# Altium footprint library SAMTEC_FTSH-105-01-L-D.PcbLib: 1 footprints
Each footprint in its own frame and in the unit in brackets; x right, y up, seen from the top. Pads: shape width x height; smd on the part's side, far side on the other; paste and mask are expansions set on the pad; w line width, h text height; cw(c..) or ccw(c..) is an arc to the next point about the centre after c.
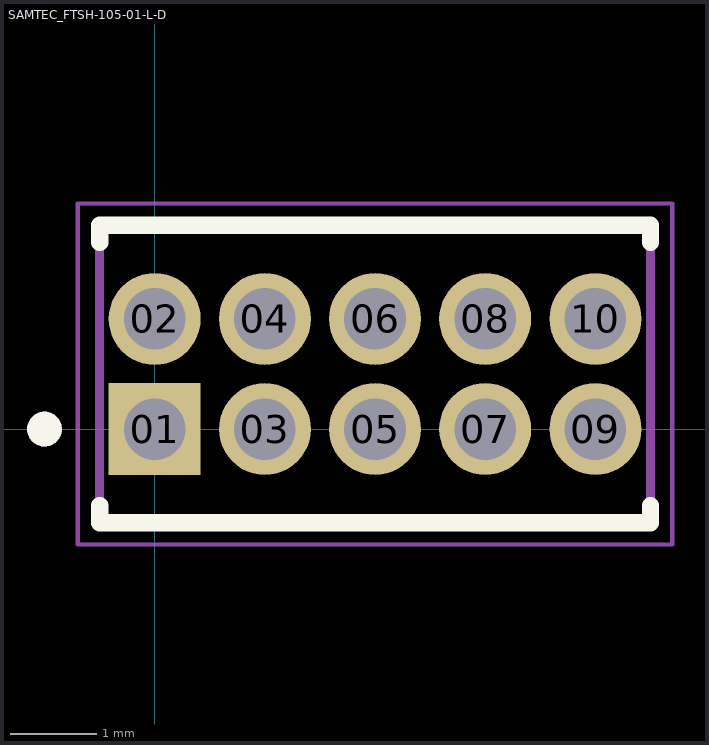
[diagram p0: the footprint, top view; thin cyan lines are the x and y axes]

## SAMTEC_FTSH-105-01-L-D [mm]
pads (10):
  rect 1.06x1.06 hole 0.71: 01(0,0)
  round 1.06 hole 0.71: 02(0,1.27) 03(1.27,0) 04(1.27,1.27) 05(2.54,0) 06(2.54,1.27) 07(3.81,0) 08(3.81,1.27) 09(5.08,0) 10(5.08,1.27)
Top Overlay:
  circle w0.2: c-1.27,0 r0.1
  lines w0.2: -0.635,-0.88 -0.635,-1.08 5.715,-1.08 5.715,-0.88 ; -0.635,2.15 -0.635,2.35 5.715,2.35 5.715,2.15
Mechanical 13:
  circle w0.2: c-1.27,0 r0.1
  lines w0.1: -0.635,-1.08 -0.635,2.35 5.715,2.35 5.715,-1.08 -0.635,-1.08
Mechanical 15:
  lines w0.05: -0.885,-1.33 -0.885,2.6 5.965,2.6 5.965,-1.33 -0.885,-1.33
3D body "step_temp.STEP": height 5.56, standoff -2.29, extent -3.175,-1.714 3.175,1.714